# Altium footprint library HV9150.PcbLib: 25 footprints (part 2 of 2)
Each footprint in its own frame and in the unit in brackets; x right, y up, seen from the top. Pads: shape width x height; smd on the part's side, far side on the other; paste and mask are expansions set on the pad; w line width, h text height; cw(c..) or ccw(c..) is an arc to the next point about the centre after c.
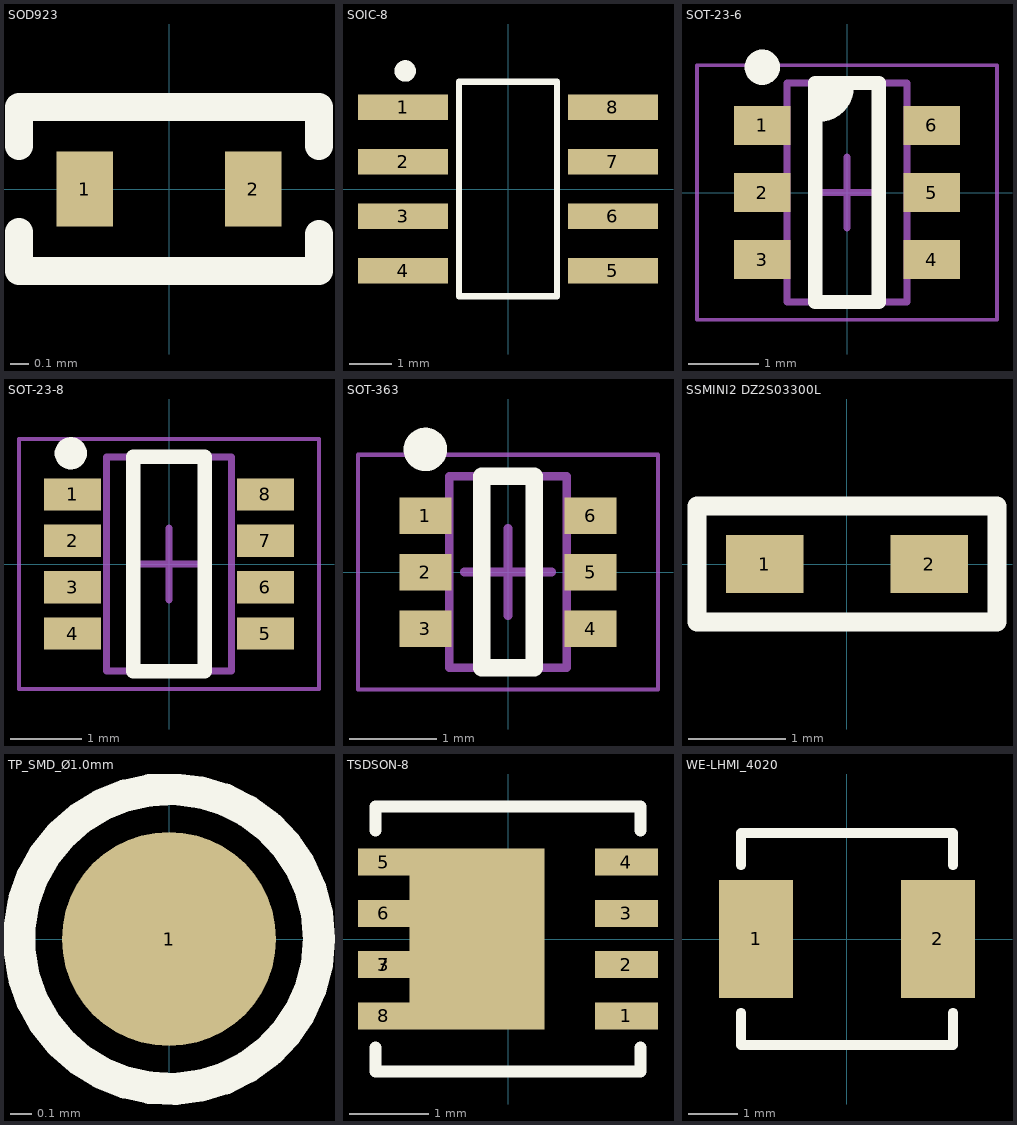
[diagram p1: the footprints below, top view; thin cyan lines are the x and y axes]

## SOD923 [mm] "SOD, 2-Leads, Body 0.60x0.80mm, IPC Medium Density"
height 0.8
pads (2):
  rect 0.3x0.4 smd: 1(-0.45,0) 2(0.45,0)
Top Overlay:
  lines w0.15: -0.8,-0.229 -0.8,-0.438 0.8,-0.438 0.8,-0.241 ; -0.8,0.229 -0.8,0.438 0.8,0.438 0.8,0.229
3D body "SOD-923.step": height 0.42, standoff -0.02, extent -0.5,-0.3 0.514,0.3

## SOIC-8 [mm] "SOIC, 8-Leads, Body 4.9x3.9mm, Pitch 1.27mm, IPC Medium Density"
height 1.75
pads (8):
  rect 2.1x0.6 smd paste-5: 1(-2.45,1.905) 2(-2.45,0.635) 3(-2.45,-0.635) 4(-2.45,-1.905) 5(2.45,-1.905) 6(2.45,-0.635) 7(2.45,0.635) 8(2.45,1.905)
Top Overlay:
  circle w0.25: c-2.4,2.755 r0.125
  lines w0.15: -1.143,-2.5 1.143,-2.5 1.143,2.5 -1.143,2.5 -1.143,-2.5
Top Paste:
  region: 1.775,2.2 1.775,1.625 3.25,1.625 3.25,2.2
  region: 1.775,0.925 1.775,0.35 3.25,0.35 3.25,0.925
  region: 1.775,-0.35 1.775,-0.925 3.25,-0.925 3.25,-0.35
  region: 1.775,-1.625 1.775,-2.2 3.25,-2.2 3.25,-1.625
  region: -1.775,1.625 -1.775,2.2 -3.25,2.2 -3.25,1.625
  region: -1.775,0.35 -1.775,0.925 -3.25,0.925 -3.25,0.35
  region: -1.775,-0.925 -1.775,-0.35 -3.25,-0.35 -3.25,-0.925
  region: -1.775,-2.2 -1.775,-1.625 -3.25,-1.625 -3.25,-2.2
3D body "User Library-SOIC08-150.step": height 1.75, standoff 0, extent -2.9,-2.4 2.9,2.4

## SOT-23-6 [mm] "SOT23, 6-Leads, Body 3.00x2.85mm, Pitch 0.95mm, IPC Medium Density"
height 1.3
pads (6):
  rect 0.8x0.55 smd: 1(-1.2,0.95) 2(-1.2,0) 3(-1.2,-0.95) 4(1.2,-0.95) 5(1.2,0) 6(1.2,0.95)
Top Overlay:
  circle w0.25: c-1.2,1.775 r0.125
  region: -0.45,1.55 0.1,1.55 0.1,1.5 -0.3,1.1 -0.45,1.1
  lines w0.2: -0.4,1.1 ccw(c-0.4,1.5) 0,1.5 ; -0.45,-1.55 -0.45,1.55 0.45,1.55 0.45,-1.55 -0.45,-1.55
Mechanical 13:
  lines w0.1: -0.85,-1.55 0.85,-1.55 0.85,1.55 -0.85,1.55 -0.85,-1.55
Mechanical 15:
  lines w0.05: -2.125,-1.8 2.125,-1.8 2.125,1.8 -2.125,1.8 -2.125,-1.8
  lines w0.1: -0.5,0 0.5,0 ; 0,-0.5 0,0.5
3D body "sot-23-6-atmel.STEP": height 1.45, standoff 0, extent -1.41,-1.45 1.41,1.45

## SOT-23-8 [mm] "SOT23, 6-Leads, Body 2,90x2,80mm, Pitch 0,65mm, IPC Medium Density"
height 1.1
pads (8):
  rect 0.8x0.45 smd: 1(-1.35,0.975) 2(-1.35,0.325) 3(-1.35,-0.325) 4(-1.35,-0.975) 5(1.35,-0.975) 6(1.35,-0.325) 7(1.35,0.325) 8(1.35,0.975)
Top Overlay:
  circle w0.25: c-1.375,1.55 r0.1
  lines w0.2: -0.5,-1.5 -0.5,1.5 0.5,1.5 0.5,-1.5 -0.5,-1.5
Mechanical 13:
  lines w0.1: -0.875,-1.5 0.875,-1.5 0.875,1.5 -0.875,1.5 -0.875,-1.5
Mechanical 15:
  lines w0.05: -2.1,-1.75 2.1,-1.75 2.1,1.75 -2.1,1.75 -2.1,-1.75
  lines w0.1: -0.5,0 0.5,0 ; 0,-0.5 0,0.5
3D body "SOT23-8.STEP": height 1, standoff 0, extent -1.4,-1.45 1.4,1.45

## SOT-363 [mm] "SOT363, 6-Leads, Body 2.00x2.10mm, Pitch 0.65mm, IPC Medium Density"
height 1.1
pads (6):
  rect 0.6x0.42 smd: 1(-0.95,0.65) 2(-0.95,0) 3(-0.95,-0.65) 4(0.95,-0.65) 5(0.95,0) 6(0.95,0.65)
Top Overlay:
  circle w0.25: c-0.95,1.41 r0.125
  lines w0.2: -0.3,-1.1 -0.3,1.1 0.3,1.1 0.3,-1.1 -0.3,-1.1
Mechanical 13:
  lines w0.1: -0.675,-1.1 0.675,-1.1 0.675,1.1 -0.675,1.1 -0.675,-1.1
Mechanical 15:
  lines w0.05: -1.725,-1.35 1.725,-1.35 1.725,1.35 -1.725,1.35 -1.725,-1.35
  lines w0.1: -0.5,0 0.5,0 ; 0,-0.5 0,0.5
3D body "SOT-363.STEP": height 1.05, standoff 0, extent -1.058,-1.1 1.058,1.1

## SSMINI2 DZ2S03300L [mm]
pads (2):
  rect 0.8x0.6 smd: 1(-0.85,0) 2(0.85,0)
Top Overlay:
  lines w0.2: -1.55,-0.6 -1.55,0 -1.55,0.6 1.55,0.6 1.55,-0.6 -1.55,-0.6
3D body "SMini2-F5-B.STEP": height 0.7, standoff 0, extent -1.25,-0.625 1.25,0.625

## TP_SMD_Ø1.0mm [mm]
pads (1):
  round 1 smd paste-5: 1(0,0)
Top Overlay:
  circle w0.15: c0,0 r0.7

## TSDSON-8 [mm]
pads (10):
  rect 0.8x0.34 smd: 1(1.5,-0.975) 2(1.5,-0.325) 3(1.5,0.325) 4(1.5,0.975)
  rect 0.65x0.34 on Top Paste: 3(-1.575,-0.325)
  rect 0.65x0.34 smd: 5(-1.575,0.975) 6(-1.575,0.325) 7(-1.575,-0.325) 8(-1.575,-0.975)
  rect 1.71x2.29 smd: ""(-0.395,0)
Top Overlay:
  lines w0.152: -1.676,-1.375 -1.676,-1.676 1.676,-1.676 1.676,-1.375 ; -1.676,1.375 -1.676,1.676 1.676,1.676 1.676,1.375
3D body "Mosfet-DFN8_3x3.STEP": height 0.8, standoff 0, extent -1.6,-1.55 1.6,1.55

## WE-LHMI_4020 [mm] "SMT Power Inductor, 2-Leads, body 4.06x4.06mm"
height 2
pads (2):
  rect 1.5x2.4 smd: 1(-1.85,0) 2(1.85,0)
Top Overlay:
  lines w0.2: -2.155,-1.5 -2.155,-2.155 2.155,-2.155 2.155,-1.5 ; -2.155,1.5 -2.155,2.155 2.155,2.155 2.155,1.5
3D body "WE-LHMI_4020.stp": height 1.8, standoff 0, extent -2.225,-2.03 2.225,2.03